# Altium schematic symbol library Schlib1.SchLib: 3 symbols
Pins are listed as number, name and electrical type; pins without a type are passive.

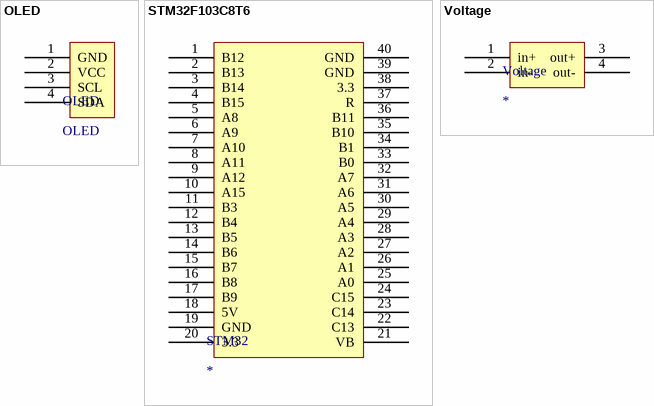
[diagram p0: symbols OLED to Voltage]

## OLED
designator OLED
footprint OLED
pins: 1 GND, 2 VCC, 3 SCL, 4 SDA

## STM32F103C8T6
designator STM32
footprint STM32F103C8T6
pins: 1 B12, 2 B13, 3 B14, 4 B15, 5 A8, 6 A9, 7 A10, 8 A11, 9 A12, 10 A15, 11 B3, 12 B4, 13 B5, 14 B6, 15 B7, 16 B8, 17 B9, 18 5V, 19 GND, 20 3.3, 21 VB, 22 C13, 23 C14, 24 C15, 25 A0, 26 A1, 27 A2, 28 A3, 29 A4, 30 A5, 31 A6, 32 A7, 33 B0, 34 B1, 35 B10, 36 B11, 37 R, 38 3.3, 39 GND, 40 GND

## Voltage
designator Voltage
footprint Voltage
pins: 1 in+, 2 in-, 3 out+, 4 out-